# EAGLE library part STM32WLE5JC (library ICs)
Multiprotocol LPWAN 32-bit Arm® Cortex®-M4 MCUs, LoRa®, (G)FSK, (G)MSK, BPSK, up to 256KB Flash, 64KB SRAM
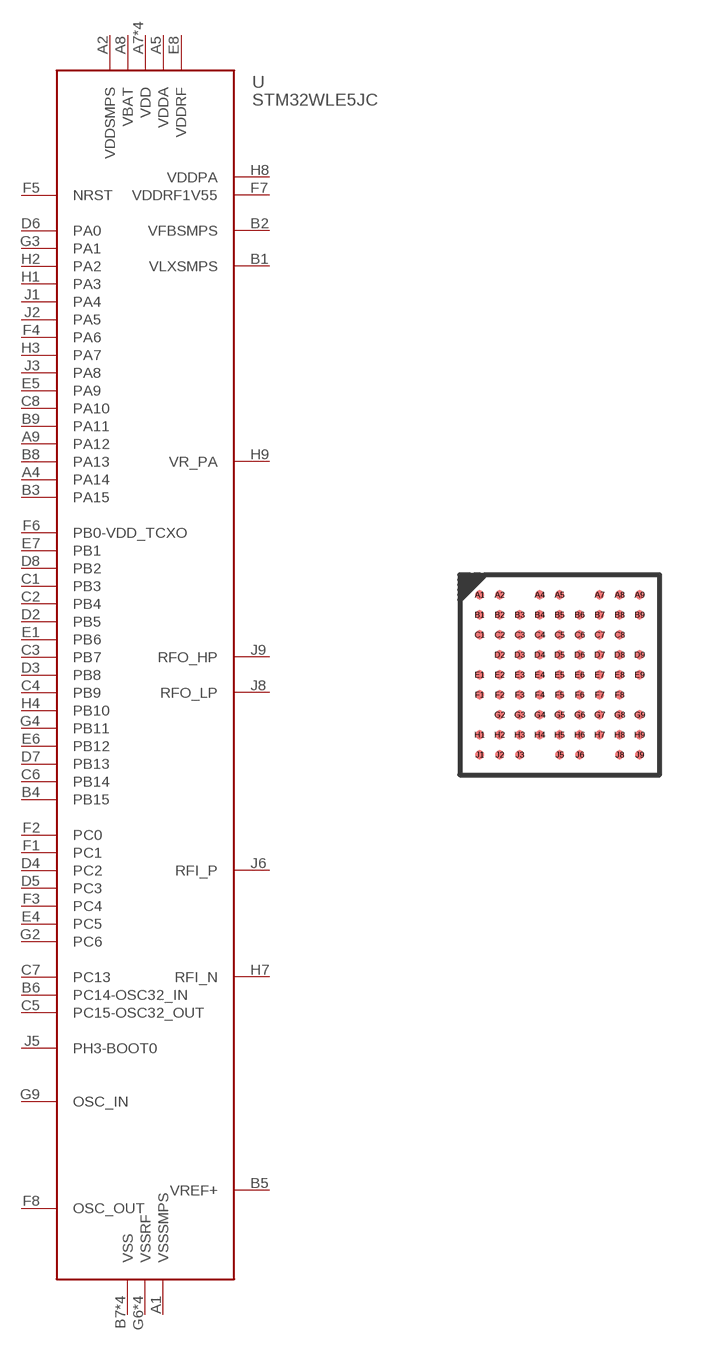
[diagram p283: symbol with the pads of UFBGA73; footprint UFBGA73]

Designator prefix U

## STM32WLE5JC (DIGIKEY: 497-STM32WLE5JCI6-ND; HEIGHT: 1; PRICE_PER: 7.03; VALUE: STM32WLE5JC)  [UFBGA73]
A1  VSSSMPS
A2  VDDSMPS
A4  PA14
A5  VDDA
A7  VDD
A8  VBAT
A9  PA12
B1  VLXSMPS
B2  VFBSMPS
B3  PA15
B4  PB15
B5  VREF+
B6  PC14-OSC32_IN
B7  VSS
B8  PA13
B9  PA11
C1  PB3
C2  PB4
C3  PB7
C4  PB9
C5  PC15-OSC32_OUT
C6  PB14
C7  PC13
C8  PA10
D2  PB5
D3  PB8
D4  PC2
D5  PC3
D6  PA0
D7  PB13
D8  PB2
D9  VSS
E1  PB6
E2  VDD
E3  VSS
E4  PC5
E5  PA9
E6  PB12
E7  PB1
E8  VDDRF
E9  VDD
F1  PC1
F2  PC0
F3  PC4
F4  PA6
F5  NRST
F6  PB0-VDD_TCXO
F7  VDDRF1V55
F8  OSC_OUT
G2  PC6
G3  PA1
G4  PB11
G5  VSS
G6  VSSRF
G7  VSSRF
G8  VSSRF
G9  OSC_IN
H1  PA3
H2  PA2
H3  PA7
H4  PB10
H5  VDD
H6  VSSRF
H7  RFI_N
H8  VDDPA
H9  VR_PA
J1  PA4
J2  PA5
J3  PA8
J5  PH3-BOOT0
J6  RFI_P
J8  RFO_LP
J9  RFO_HP

## Footprint UFBGA73 (pad centres in mm)
smd 0.23 x 0.23: A1 -2,2; A2 -1.5,2; A4 -0.5,2; A5 0,2; A7 1,2; A8 1.5,2; A9 2,2; B1 -2,1.5; B2 -1.5,1.5; B3 -1,1.5; B4 -0.5,1.5; B5 0,1.5; B6 0.5,1.5; B7 1,1.5; B8 1.5,1.5; B9 2,1.5; C1 -2,1; C2 -1.5,1; C3 -1,1; C4 -0.5,1; C5 0,1; C6 0.5,1; C7 1,1; C8 1.5,1; D2 -1.5,0.5; D3 -1,0.5; D4 -0.5,0.5; D5 0,0.5; D6 0.5,0.5; D7 1,0.5; D8 1.5,0.5; D9 2,0.5; E1 -2,0; E2 -1.5,0; E3 -1,0; E4 -0.5,0; E5 0,0; E6 0.5,0; E7 1,0; E8 1.5,0; E9 2,0; F1 -2,-0.5; F2 -1.5,-0.5; F3 -1,-0.5; F4 -0.5,-0.5; F5 0,-0.5; F6 0.5,-0.5; F7 1,-0.5; F8 1.5,-0.5; G2 -1.5,-1; G3 -1,-1; G4 -0.5,-1; G5 0,-1; G6 0.5,-1; G7 1,-1; G8 1.5,-1; G9 2,-1; H1 -2,-1.5; H2 -1.5,-1.5; H3 -1,-1.5; H4 -0.5,-1.5; H5 0,-1.5; H6 0.5,-1.5; H7 1,-1.5; H8 1.5,-1.5; H9 2,-1.5; J1 -2,-2; J2 -1.5,-2; J3 -1,-2; J5 0,-2; J6 0.5,-2; J8 1.5,-2; J9 2,-2